# EAGLE library part USB3065-30-01-A (library USB3065-30-01-A)
Micro B Skt, Bottom-SMT, R/A, 30µ", With Peg, T&R
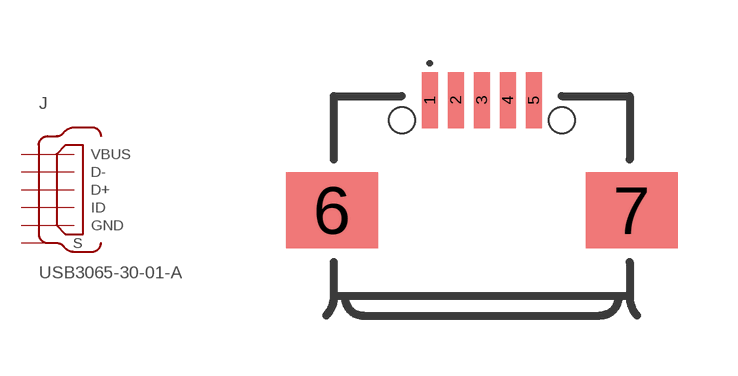
[diagram p0: symbol with the pads of GCT_USB3065-30-01-A; footprint GCT_USB3065-30-01-A]

Designator prefix J

## USB3065-30-01-A (Availability: Unavailable; Description: Micro B Skt, Bottom-SMT, R/A, 30µ, With Peg, T&R; MF: Global Connector Technology; MP: USB3065-30-01-A; Package: None; Price: 0.26 USD)  [GCT_USB3065-30-01-A]
1  VBUS  pwr
2  D-  pas
3  D+  pas
4  ID  pas
5  GND  pwr
6  S  pwr
7  S  pwr

## Footprint GCT_USB3065-30-01-A (pad centres in mm)
smd 0.4 x 1.4: 1 -1.3,2.75; 2 -0.65,2.75; 3 0,2.75; 4 0.65,2.75; 5 1.3,2.75
smd 2.3 x 1.9: 6 -3.75,0; 7 3.75,0
hole 0.65 at -2,2.25
hole 0.65 at 2,2.25